# Altium schematic symbol library LP2951.SchLib: 1 symbol
Pins are listed as number, name and electrical type; pins without a type are passive.

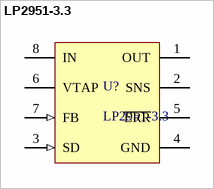
[diagram p0: symbol LP2951-3.3]

## LP2951-3.3
designator U?
footprint SOIC-8_L
footprint SOIC-8_M
footprint SOIC-8_N
footprint SOIC-8
pins: 1 OUT (power), 2 SNS, 3 SD (in), 4 GND (power), 5 ~{ERR} (oc), 6 VTAP, 7 FB (in), 8 IN (power)